# Altium schematic symbol library ESP32_Control_Board.SchLib: 4 symbols
Pins are listed as number, name and electrical type; pins without a type are passive.

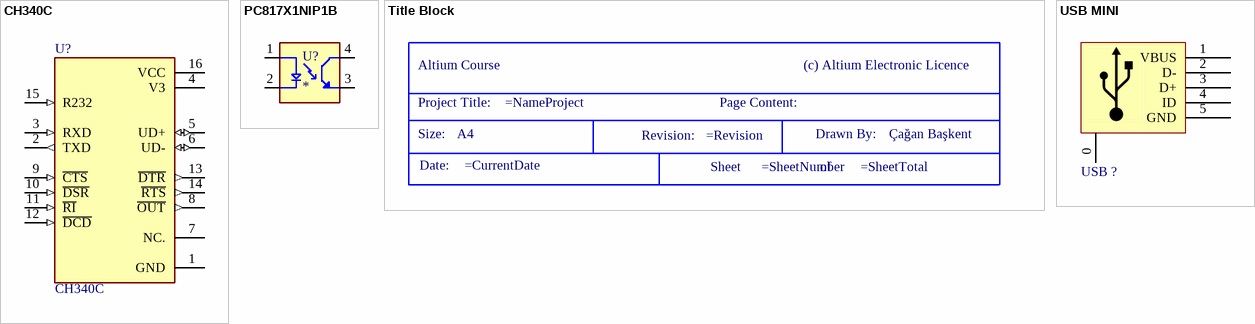
[diagram p0: symbols CH340C to USB MINI]

## CH340C
designator U?
Replacement for Brother P-Touch; MF: Olimex; SnapEDA_Link: https://www.snapeda.com/parts/CH340C/Olimex/view-part/?ref=snap; Package: None; Value: *; MP: CH340C; Check_prices: https://www.snapeda.com/parts/CH340C/Olimex/view-part/?ref=eda
footprint SOIC-16N
pins: 1 GND (power), 2 TXD (out), 3 RXD (in), 4 V3 (power), 5 UD+ (io), 6 UD- (io), 7 NC., 8 ~{OUT} (out), 9 ~{CTS} (in), 10 ~{DSR} (in), 11 ~{RI} (in), 12 ~{DCD} (in), 13 ~{DTR} (out), 14 ~{RTS} (out), 15 R232 (in), 16 VCC (power)

## PC817X1NIP1B
designator U?
Optoisolator Transistor Output 1 Channel 4-SMD; MF: Sharp Microelectronics; MP: PC817X1NIP1B; SnapEDA_Link: https://www.snapeda.com/parts/PC817X1NIP1B/Sharp+Microelectronics/view-part/?ref=snap; Package: None; Value: *; Check_prices: https://www.snapeda.com/parts/PC817X1NIP1B/Sharp+Microelectronics/view-part/?ref=eda
footprint SOIC-4N
pins: 1 A, 2 C, 3 ET, 4 CT

## Title Block
designator *??  Size: A4  Drawn By: Çağan Başkent  (hidden comment: Title Block)  (graphical)
text: Altium Course; (c) Altium Electronic Licence; Project Title:; Page Content:; Size:; Drawn By:; Revision:; Date:; Sheet; of

## USB MINI
designator USB ?  (value not drawn)
footprint USB-MINI-SMD
pins: 0 BODY, 1 VBUS (power), 2 D-, 3 D+, 4 ID (power), 5 GND (power)